# Altium schematic symbol library relay_c_meter.SchLib: 2 symbols
Pins are listed as number, name and electrical type; pins without a type are passive.

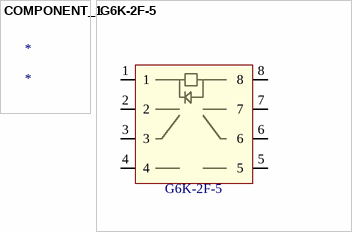
[diagram p0: symbols COMPONENT_1 to G6K-2F-5]

## COMPONENT_1
designator *
1 alternate drawing of the same symbol

## G6K-2F-5
designator DA?
Relay; Published: 8-Jun-2000; LatestRevisionDate: 17-Jul-2002; LatestRevisionNote: Re-released for DXP Platform.; PackageReference: RAD-0.3; Publisher: Altium Limited; PackageDescription: Radial Cap, Thru-Hole; 2 Leads; 0.3 in Pin Spacing; Value: G6K-2F-5
footprint G6K-2F-5 (Relay)
pins: 1, 2, 3, 4, 5, 6, 7, 8